# Altium schematic symbol library MMDT5451.Schlib: 1 symbol
Pins are listed as number, name and electrical type; pins without a type are passive.

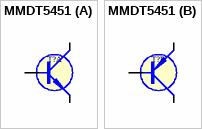
[diagram p0: symbol MMDT5451]

## MMDT5451
designator T?
SOT363 Dual p/n 150V 0.6A 100MHz 6p (10V)
part A pins: 1 E (oe), 2 B, 6 C (oc)
part B pins: 3 C (oc), 4 E (oe), 5 B
1 alternate drawing of the same symbol